# Altium footprint library 105.PcbLib: 1 footprints
Each footprint in its own frame and in the unit in brackets; x right, y up, seen from the top. Pads: shape width x height; smd on the part's side, far side on the other; paste and mask are expansions set on the pad; w line width, h text height; cw(c..) or ccw(c..) is an arc to the next point about the centre after c.
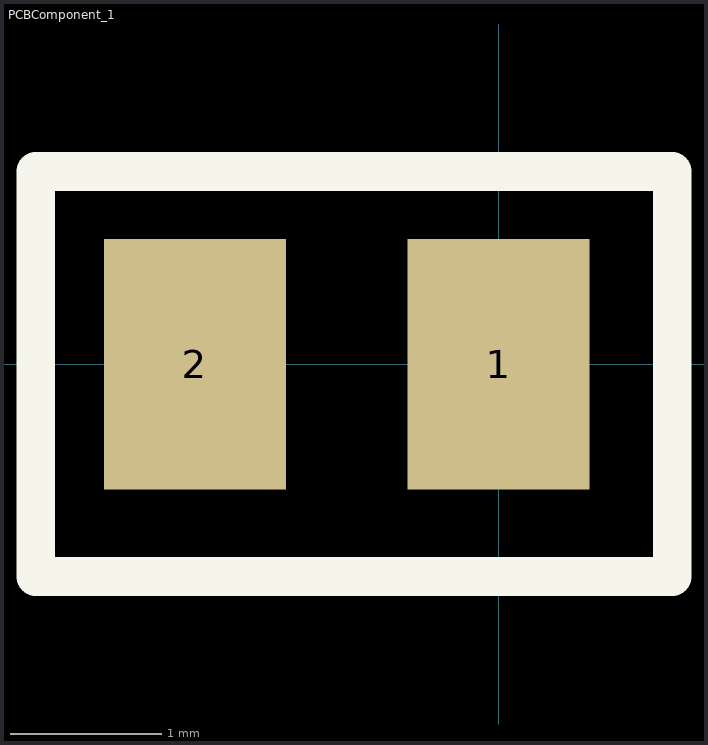
[diagram p0: the footprint, top view; thin cyan lines are the x and y axes]

## PCBComponent_1 [mm]
pads (2):
  rect 1.2x1.65 smd: 1(0,0) 2(-2,0)
Top Overlay:
  lines w0.254: -3.048,-1.397 -3.048,1.27 1.143,1.27 1.143,-1.397 -3.048,-1.397
3D body: height 0.25, standoff 0, extent 0.635,0.889 0.635,0.889
3D body: height 0.25, standoff 0, extent -9.144,-11.684 -9.144,-11.684
3D body: height 0.25, standoff 0, extent -1.016,-0.127 -1.016,-0.127
3D body: height 0.25, standoff 0, extent -1.016,-0.127 -1.016,-0.127
3D body: height 0.25, standoff 0, extent -1.016,-0.127 -1.016,-0.127
3D body: height 0.25, standoff 0, extent -0.889,1.397 -0.889,1.397
3D body: height 0.25, standoff 0, extent -1.524,-0.508 -1.524,-0.508
3D body "c0805c104j5ractu.stp": height 1.46, standoff 0.01, extent -2.243,-0.245 -0.043,0.635
3D body: height 0.25, standoff 0, extent -0.254,0.635 -0.254,0.635
3D body: height 0.25, standoff 0, extent -0.762,0.508 -0.762,0.508
3D body: height 0.25, standoff 0, extent -0.762,0.508 -0.762,0.508
3D body: height 0.25, standoff 0, extent -1.016,0.254 -1.016,0.254